# Altium footprint library Eric.PcbLib: 20 footprints (part 2 of 2)
Each footprint in its own frame and in the unit in brackets; x right, y up, seen from the top. Pads: shape width x height; smd on the part's side, far side on the other; paste and mask are expansions set on the pad; w line width, h text height; cw(c..) or ccw(c..) is an arc to the next point about the centre after c.
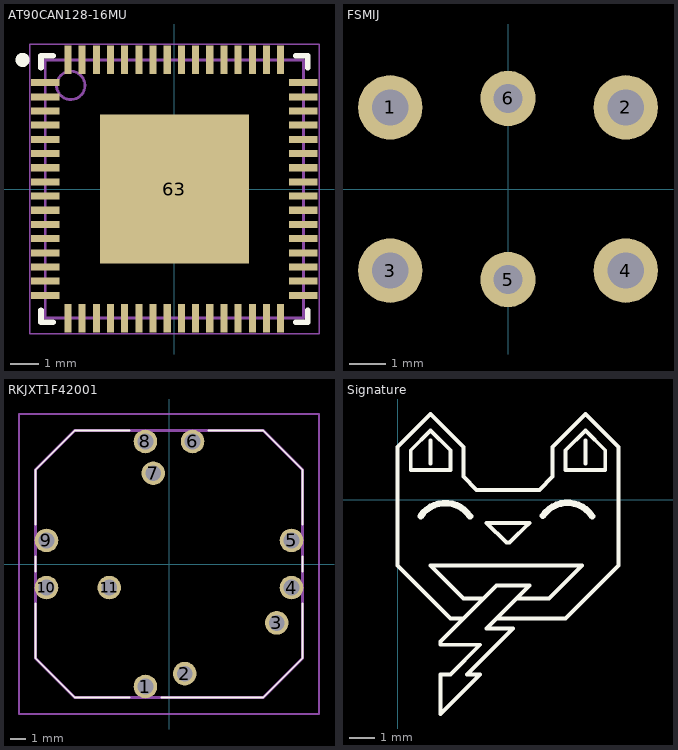
[diagram p1: the footprints below, top view; thin cyan lines are the x and y axes]

## AT90CAN128-16MU [mm] "QFN, 64-Leads, Body 9,00x9,00mm, Pitch 0,50mm, Thermal Pad 5,25x5,25mm, IPC Medium Density"
height 1
pads (65):
  rect 1x0.25 smd mask+0.05: 1(-4.55,3.75) 2(-4.55,3.25) 3(-4.55,2.75) 4(-4.55,2.25) 5(-4.55,1.75) 6(-4.55,1.25) 7(-4.55,0.75) 8(-4.55,0.25) 9(-4.55,-0.25) 10(-4.55,-0.75) 11(-4.55,-1.25) 12(-4.55,-1.75) 13(-4.55,-2.25) 14(-4.55,-2.75) 15(-4.55,-3.25) 16(-4.55,-3.75) 33(4.55,-3.75) 34(4.55,-3.25) 35(4.55,-2.75) 36(4.55,-2.25) 37(4.55,-1.75) 38(4.55,-1.25) 39(4.55,-0.75) 40(4.55,-0.25) 41(4.55,0.25) 42(4.55,0.75) 43(4.55,1.25) 44(4.55,1.75) 45(4.55,2.25) 46(4.55,2.75) 47(4.55,3.25) 48(4.55,3.75)
  rect 0.25x1 smd mask+0.05: 17(-3.75,-4.55) 18(-3.25,-4.55) 19(-2.75,-4.55) 20(-2.25,-4.55) 21(-1.75,-4.55) 22(-1.25,-4.55) 23(-0.75,-4.55) 24(-0.25,-4.55) 25(0.25,-4.55) 26(0.75,-4.55) 27(1.25,-4.55) 28(1.75,-4.55) 29(2.25,-4.55) 30(2.75,-4.55) 31(3.25,-4.55) 32(3.75,-4.55) 49(3.75,4.55) 50(3.25,4.55) 51(2.75,4.55) 52(2.25,4.55) 53(1.75,4.55) 54(1.25,4.55) 55(0.75,4.55) 56(0.25,4.55) 57(-0.25,4.55) 58(-0.75,4.55) 59(-1.25,4.55) 60(-1.75,4.55) 61(-2.25,4.55) 62(-2.75,4.55) 63(-3.25,4.55) 64(-3.75,4.55)
  rect 5.25x5.25 smd: 63(0,0)
Top Overlay:
  circle w0.25: c-5.35,4.55 r0.125
  lines w0.2: -4.7,-4.275 -4.7,-4.7 -4.275,-4.7 ; -4.7,4.275 -4.7,4.7 -4.275,4.7 ; 4.275,-4.7 4.7,-4.7 4.7,-4.275 ; 4.275,4.7 4.7,4.7 4.7,4.275
Mechanical 13:
  circle w0.1: c-3.65,3.65 r0.5
  lines w0.1: -4.55,-4.55 -4.55,4.55 4.55,4.55 4.55,-4.55 -4.55,-4.55
Mechanical 15:
  lines w0.05: -5.1,-5.1 -5.1,5.1 5.1,5.1 5.1,-5.1 -5.1,-5.1
  lines w0.1: -0.5,0 0.5,0 ; 0,-0.5 0,0.5
3D body "QFN50P900X900X100_HS-65N.step": height 1, standoff 0, extent -4.6,-4.6 4.6,4.6

## FSMIJ [mm]
pads (6):
  round 1.778 / inner rect 1.27x2.54 / far side round 1.778 hole 1: 1(-3.25,2.25) 2(3.25,2.25) 3(-3.25,-2.25) 4(3.25,-2.25)
  round 1.524 / inner rect 1.27x2.54 / far side round 1.524 hole 0.8: 5(0,-2.5) 6(0,2.5)
3D body "c-4-2213818-7-a-3d.stp": height 7, standoff -5, extent -3.889,-3.05 3.89,3.05

## RKJXT1F42001 [mm]
pads (11):
  round 1.5 hole 1: 1(-1.5,-7.8) 2(1,-6.98) 3(6.86,-3.75) 4(7.8,-1.5) 5(7.8,1.5) 6(1.5,7.8) 7(-1,5.78) 8(-1.5,7.8) 9(-7.8,1.5) 10(-7.8,-1.5) 11(-3.8,-1.5)
Top Overlay:
  lines w0.1: -8.5,-2.5 -8.5,-6 -6,-8.5 -2.5,-8.5 ; -8.5,-0.5 -8.5,0.5 ; -8.5,2.5 -8.5,6 -6,8.5 -2.5,8.5 ; -0.5,-8.5 6,-8.5 8.5,-6 8.5,-2.5 ; 2.5,8.5 6,8.5 8.5,6 8.5,2.5 ; 8.5,-0.5 8.5,0.5
Mechanical 13:
  lines w0.2: -8.5,-6 -6,-8.5 6,-8.5 8.5,-6 8.5,6 6,8.5 -6,8.5 -8.5,6 -8.5,-6
Mechanical 15:
  lines w0.1: -9.55,-9.55 9.55,-9.55 9.55,9.55 -9.55,9.55 -9.55,-9.55
3D body "RKJXT1F42001.STEP": height 17.4, standoff -3.22, extent -8.6,-8.6 8.6,8.6

## Signature [mil]
Top Overlay:
  lines w6: 50,55 50,90 ; 100,-180 80,-180 0,-100 0,0 0,80 50,130 100,80 100,35 120,15 215,15 235,35 235,80 285,130 335,80 335,0 335,-100 255,-180 150,-180 ; 130,-150 100,-150 50,-100 280,-100 230,-150 180,-150 ; 285,55 285,90 ; 20,45 80,45 80,75 50,105 20,75 20,45 ; 65,-325 65,-275 65,-265 80,-265 125,-220 115,-220 65,-220 65,-215 90,-190 150,-130 200,-130 135,-195 175,-195 105,-265 125,-265 65,-325 ; 135,-35 165,-65 170,-65 177.5,-57.5 192.5,-42.5 200,-35 190,-35 135,-35 ; 255,45 315,45 315,75 285,105 255,75 255,45
  lines w10: 35,-25 cw(c72.29,-49.76) 109.83,-25.38 ; 220.17,-24.62 cw(c257.46,-49.38) 295,-25